# Altium schematic symbol library WR_TBL_2.SchLib: 1 symbol
Pins are listed as number, name and electrical type; pins without a type are passive.

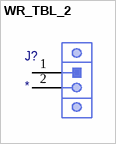
[diagram p0: symbol WR_TBL_2]

## WR_TBL_2
designator J?
pins: 1, 2